# EAGLE library part MCP165 (library Eagle_CAD_parts)
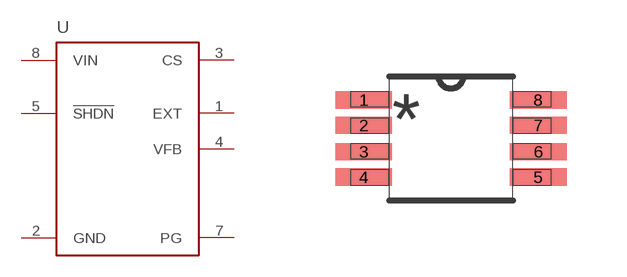
[diagram p69: symbol with the pads of 8-MSOP; footprint 8-MSOP]

Designator prefix U

## MCP1652  [8-MSOP]
1  EXT
2  GND
3  CS
4  VFB
5  !SHDN
7  PG
8  VIN

## Footprint 8-MSOP (pad centres in mm)
smd 1.422 x 0.432: 1 -2.184,0.965; 2 -2.184,0.33; 3 -2.184,-0.33; 4 -2.184,-0.965; 5 2.184,-0.965; 6 2.184,-0.33; 7 2.184,0.33; 8 2.184,0.965